# Altium footprint library AMPHENOL_67997-104HLF.PcbLib: 1 footprints
Each footprint in its own frame and in the unit in brackets; x right, y up, seen from the top. Pads: shape width x height; smd on the part's side, far side on the other; paste and mask are expansions set on the pad; w line width, h text height; cw(c..) or ccw(c..) is an arc to the next point about the centre after c.
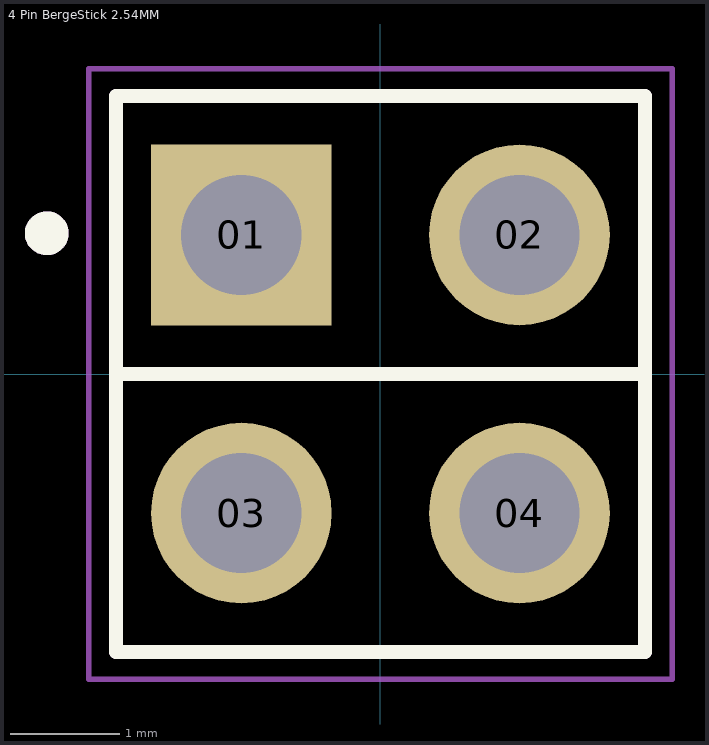
[diagram p0: the footprint, top view; thin cyan lines are the x and y axes]

## 4 Pin BergeStick 2.54MM [mm] "4 Pin 2X2Pos THT BergeStick 2.54MM Amphenol 67997-104HLF 3A AMPHENOL_67997-104HLF"
pads (4):
  rect 1.65x1.65 / inner round 1.65 / far side rect 1.65x1.65 hole 1.1: 01(-1.27,1.27)
  round 1.65 hole 1.1: 02(1.27,1.27) 03(-1.27,-1.27) 04(1.27,-1.27)
Top Overlay:
  circle w0.2: c-3.048,1.285 r0.1
  lines w0.127: -2.413,0 2.413,0 ; -2.415,-2.54 2.415,-2.54 2.415,2.54 -2.415,2.54 -2.415,-2.54
Mechanical 13:
  circle w0.2: c-3.048,1.285 r0.1
  lines w0.127: -2.413,0 2.413,0 ; -2.415,-2.54 2.415,-2.54 ; -2.415,-2.54 -2.415,2.54 ; -2.415,-2.54 2.415,-2.54 ; -2.415,2.54 2.415,2.54 ; -2.415,2.54 2.415,2.54 ; 2.415,-2.54 2.415,2.54 ; 2.415,-2.54 2.415,2.54
Mechanical 15:
  lines w0.05: -2.665,-2.79 2.665,-2.79 2.665,2.79 -2.665,2.79 -2.665,-2.79
3D body "step_temp.STEP": height 8.38, standoff -3.05, extent -2.415,-2.54 2.415,2.54